# EAGLE library part PWR_REG_BUCK_MCP16301T-I/CHY (library !GPLIB_ACTIVE)
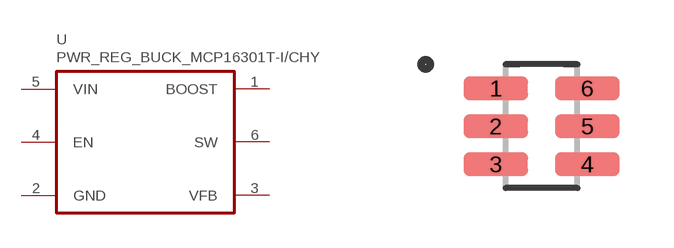
[diagram p77: symbol with the pads of SOT95P270X145-6N; footprint SOT95P270X145-6N]

Designator prefix U

## PWR_REG_BUCK_MCP16301T-I/CHY  [SOT95P270X145-6N]
1  BOOST
2  GND  pwr
3  VFB  in
4  EN  in
5  VIN  pwr
6  SW  out

## Footprint SOT95P270X145-6N (pad centres in mm)
smd 1.61 x 0.59: 1 -1.145,0.95; 2 -1.145,0; 3 -1.145,-0.95; 4 1.145,-0.95; 5 1.145,0; 6 1.145,0.95